# Altium schematic symbol library MAX17205G.SchLib: 1 symbol
Pins are listed as number, name and electrical type; pins without a type are passive.

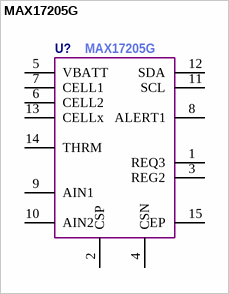
[diagram p0: symbol MAX17205G]

## MAX17205G
designator U?
Manufacturer Part Number: MAX17205G
pins: 1 REQ3, 2 CSP, 3 REG2, 4 CSN, 5 VBATT, 6 CELL2, 7 CELL1, 8 ALERT1, 9 AIN1, 10 AIN2, 11 SCL, 12 SDA, 13 CELLx, 14 THRM, 15 EP